# EAGLE library part MC100EP51DTG (library ON Semiconductor_By_element14_Batch_1)
3.3V / 5V ECL D Flip-Flop with Reset and Differential Clock
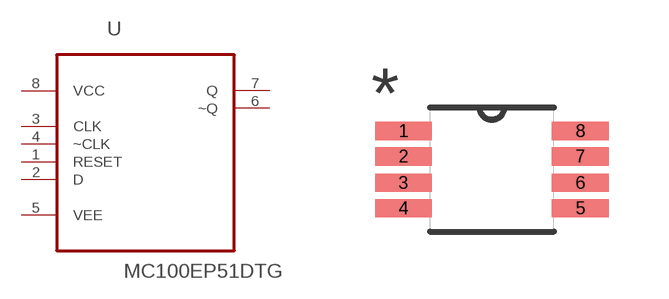
[diagram p123: symbol with the pads of SOP65P490X110-8N; footprint SOP65P490X110-8N]

Designator prefix U

## MC100EP51DTG (MPN: MC100EP51DTG; OC_FARNELL: 1354361; OC_NEWARK: 71J5411; PACKAGE: TSSOP-8; SUPPLIER: ON SEMICONDUCTOR)  [SOP65P490X110-8N]
1  RESET  in
2  D  in
3  CLK  in
4  ~CLK  in
5  VEE  pwr
6  ~Q  out
7  Q  out
8  VCC  pwr

## Footprint SOP65P490X110-8N (pad centres in mm)
smd 1.422 x 0.457: 1 -2.21,0.965; 2 -2.21,0.33; 3 -2.21,-0.33; 4 -2.21,-0.965; 5 2.21,-0.965; 6 2.21,-0.33; 7 2.21,0.33; 8 2.21,0.965